# Altium footprint library 风扇_V1.3.PcbLib: 18 footprints (part 1 of 2)
Each footprint in its own frame and in the unit in brackets; x right, y up, seen from the top. Pads: shape width x height; smd on the part's side, far side on the other; paste and mask are expansions set on the pad; w line width, h text height; cw(c..) or ccw(c..) is an arc to the next point about the centre after c.
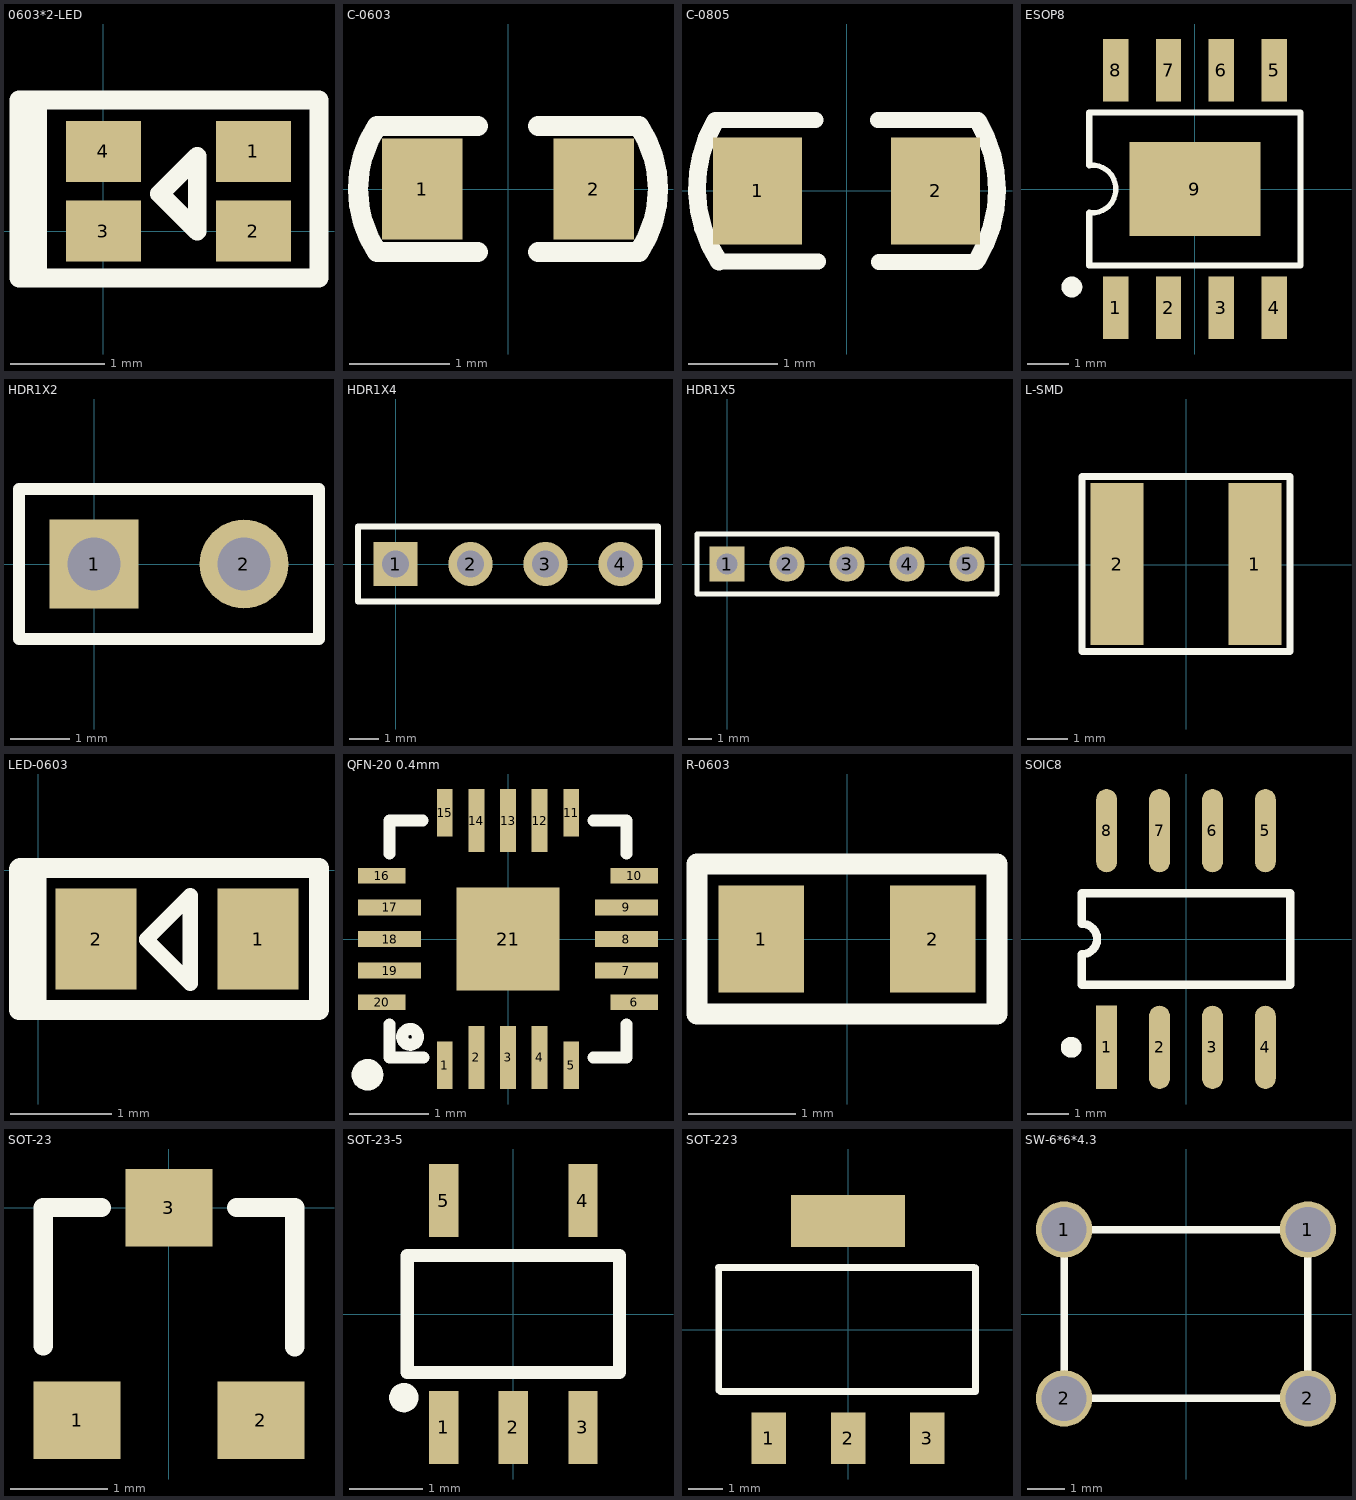
[diagram p0: the footprints below, top view; thin cyan lines are the x and y axes]

## 0603*2-LED [mm]
pads (4):
  rect 0.8x0.65 smd: 1(1.6,0.85) 2(1.6,0) 3(0,0) 4(0,0.85)
Top Overlay:
  lines w0.2: -0.7,-0.5 -0.7,1.4 ; -0.9,-0.5 -0.9,1.4 2.3,1.4 2.3,-0.5 -0.9,-0.5 ; 0.6,0.4 1,0.8 1,0 0.6,0.4

## C-0603 [mm]
pads (2):
  rect 0.8x1 smd: 1(-0.85,0) 2(0.85,0)
Top Overlay:
  lines w0.2: -0.3,-0.628 -1.3,-0.628 cw(c-0.359,0) -1.3,0.628 -0.3,0.628 ; 0.3,-0.628 1.3,-0.628 ccw(c0.359,0) 1.3,0.628 0.3,0.628

## C-0805 [mm]
pads (2):
  rect 1x1.2 smd: 1(-1,0) 2(1,0)
Top Overlay:
  lines w0.18: -1.46,0.797 -0.35,0.797 ; -1.435,-0.791 -0.325,-0.791 ; 0.35,0.797 1.473,0.797 ; 0.363,-0.797 1.46,-0.797
  lines w0.2: -1.475,0.788 ccw(c-0.18,0.029) -1.434,-0.796 ; 1.467,-0.771 ccw(c0.188,0.013) 1.473,0.787

## ESOP8 [mil]
pads (9):
  rect 24x59.06 smd: 1(-75,-112.5) 2(-25,-112.5) 3(25,-112.5) 4(75,-112.5) 5(75,112.5) 6(25,112.5) 7(-25,112.5) 8(-75,112.5)
  rect 124.02x88.98 smd: 9(0,0)
Top Overlay:
  circle w9.84: c-116.54,-92.81 r4.92
  lines w4.92: -100,-22.5 -95,-22.5 ; -100,22.5 -95,22.5
  lines w5: -95,-22.5 ccw(c-97.48,0) -95,22.5
  lines w5.91: -100,-22.5 -100,-72.5 100,-72.5 100,72.5 -100,72.5 -100,22.5

## HDR1X2 [mm] "Connector; Header; 2 Position"
pads (2):
  rect 1.5x1.5 hole 0.9: 1(0,0)
  round 1.5 hole 0.9: 2(2.54,0)
Top Overlay:
  lines w0.2: -1.27,-1.27 -1.27,1.27 3.81,1.27 3.81,-1.27 -1.27,-1.27

## HDR1X4 [mm] "Connector; Header; 4 Position"
pads (4):
  rect 1.5x1.5 hole 0.9: 1(0,0)
  round 1.5 hole 0.9: 2(2.54,0) 3(5.08,0) 4(7.62,0)
Top Overlay:
  lines w0.2: -1.27,-1.27 8.89,-1.27 8.89,1.27 -1.27,1.27 -1.27,-1.27

## HDR1X5 [mm] "Connector; Header; 5 Position"
pads (5):
  rect 1.5x1.5 hole 0.9: 1(0,0)
  round 1.5 hole 0.9: 2(2.54,0) 3(5.08,0) 4(7.62,0) 5(10.16,0)
Top Overlay:
  lines w0.2: -1.27,-1.27 11.43,-1.27 11.43,1.27 -1.27,1.27 -1.27,-1.27

## L-SMD [mm]
pads (2):
  rect 1.3x4 smd: 1(1.692,0.016) 2(-1.708,0.016)
Top Overlay:
  lines w0.18: -2.572,-2.143 -2.572,2.175 2.556,2.175 2.556,-2.143 -2.572,-2.143

## LED-0603 [mm]
pads (2):
  rect 0.8x1 smd: 1(2.17,-0.68) 2(0.57,-0.68)
Top Overlay:
  lines w0.15: 1.07,-0.69 1.5,-1.12 1.5,-0.25 1.07,-0.68 ; 1.07,-0.68 1.07,-0.68
  lines w0.2: 0.37,-1.38 -0.19,-1.38 -0.19,-0.14 -0.19,0.01 -0.18,0.02 -0.02,0.02 ; -0.02,0.02 2.77,0.02 2.77,-1.38 -0.02,-1.38 -0.02,0.02

## QFN-20 0.4mm [mm]
pads (21):
  rect 0.2x0.6 smd: 1(-0.8,-1.6) 5(0.8,-1.6) 11(0.8,1.6) 15(-0.8,1.6)
  rect 0.2x0.8 smd: 2(-0.4,-1.5) 3(0,-1.5) 4(0.4,-1.5) 12(0.4,1.5) 13(0,1.5) 14(-0.4,1.5)
  rect 0.6x0.2 smd: 6(1.6,-0.8) 10(1.6,0.8) 16(-1.6,0.8) 20(-1.6,-0.8)
  rect 0.8x0.2 smd: 7(1.5,-0.4) 8(1.5,0) 9(1.5,0.4) 17(-1.5,0.4) 18(-1.5,0) 19(-1.5,-0.4)
  rect 1.3x1.3 smd: 21(0,0)
Top Overlay:
  circle w0.2: c-1.78,-1.72 r0.1
  circle w0.152: c-1.24,-1.24 r0.1
  lines w0.15: -1.5,-1.08 -1.5,-1.5 -1.07,-1.5 ; -1.5,1.08 -1.5,1.5 -1.08,1.5 ; 1.08,-1.5 1.5,-1.5 1.5,-1.08 ; 1.08,1.5 1.5,1.5 1.5,1.08

## R-0603 [mm]
pads (2):
  rect 0.8x1 smd: 1(-0.8,0) 2(0.8,0)
Top Overlay:
  lines w0.2: -1.4,-0.7 -1.4,0.7 1.4,0.7 1.4,-0.7 -1.4,-0.7

## SOIC8 [mm]
pads (8):
  rect 0.5x2 smd: 1(-1.905,-2.6)
  oval 0.5x2 smd: 2(-0.635,-2.6) 3(0.635,-2.6) 4(1.905,-2.6) 5(1.905,2.6) 6(0.635,2.6) 7(-0.635,2.6) 8(-1.905,2.6)
Top Overlay:
  circle w0.25: c-2.755,-2.6 r0.125
  lines w0.2: -2.5,-1.1 2.5,-1.1 2.5,1.1 -2.5,1.1 -2.5,0.367 cw(c-2.5,0) -2.5,-0.367 -2.5,-1.1

## SOT-23 [mm]
pads (3):
  rect 0.9x0.8 smd: 1(-0.95,-2.2) 2(0.95,-2.2) 3(0,0)
Top Overlay:
  lines w0.2: -1.3,-1.43 -1.3,0 -0.7,0 ; 0.7,0 1.3,0 1.3,-1.44

## SOT-23-5 [mm]
pads (5):
  rect 0.4x1 smd: 1(-0.95,-1.55) 2(0,-1.55) 3(0.95,-1.55) 4(0.95,1.55) 5(-0.95,1.55)
Top Overlay:
  circle w0.2: c-1.497,-1.143 r0.1
  lines w0.18: -1.45,-0.8 -1.45,0.8 1.45,0.8 1.45,-0.8 -1.45,-0.8

## SOT-223 [mm]
pads (4):
  rect 1x1.5 smd: 1(-2.3,-3.15) 2(0,-3.15) 3(2.3,-3.15)
  rect 3.3x1.5 smd: ""(0,3.15)
Top Overlay:
  lines w0.2: -3.76,1.8 0,1.8 ; -3.75,1.79 -3.75,-1.75 -3.7,-1.8 3.7,-1.8 3.7,1.79 ; -0.29,1.8 3.65,1.8

## SW-6*6*4.3 [mm]
pads (4):
  round 1.5 hole 1.2: 1(-3.25,2.25) 1(3.25,2.25) 2(-3.25,-2.25) 2(3.25,-2.25)
Top Overlay:
  lines w0.2: -3.25,-2.25 3.25,-2.25 3.25,2.25 -3.25,2.25 -3.25,-2.25